# Altium footprint library PcbLib1.PcbLib: 1 footprints
Each footprint in its own frame and in the unit in brackets; x right, y up, seen from the top. Pads: shape width x height; smd on the part's side, far side on the other; paste and mask are expansions set on the pad; w line width, h text height; cw(c..) or ccw(c..) is an arc to the next point about the centre after c.
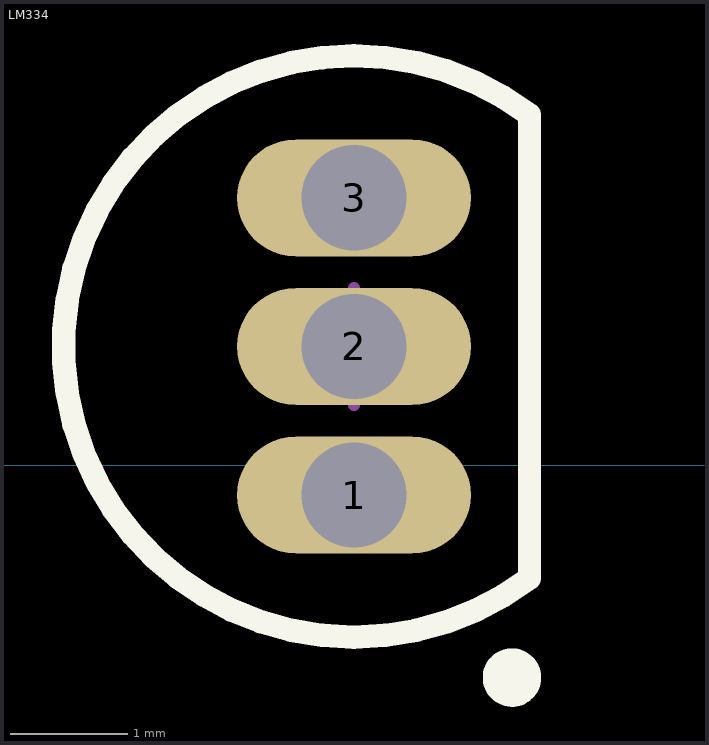
[diagram p0: the footprint, top view; thin cyan lines are the x and y axes]

## LM334 [mm]
pads (3):
  oval 2x1 hole 0.9: 1(36.83,-0.254) 2(36.83,1.016) 3(36.83,2.286)
Top Overlay:
  circle w0.25: c38.18,-1.814 r0.125
  lines w0.2: 38.33,-0.964 cw(c36.83,1.016) 38.33,2.996 38.33,-0.964
Mechanical 13:
  lines w0.1: 38.33,-0.964 cw(c36.83,1.016) 38.33,2.996 38.33,-0.964
Mechanical 15:
  lines w0.1: 36.33,1.016 37.33,1.016 ; 36.83,0.516 36.83,1.516
3D body: height 6.86, standoff 2.2, extent 34.333,-1.481 38.331,3.513